# Altium footprint library STLINK-V3MOS.PcbLib: 1 footprints
Each footprint in its own frame and in the unit in brackets; x right, y up, seen from the top. Pads: shape width x height; smd on the part's side, far side on the other; paste and mask are expansions set on the pad; w line width, h text height; cw(c..) or ccw(c..) is an arc to the next point about the centre after c.
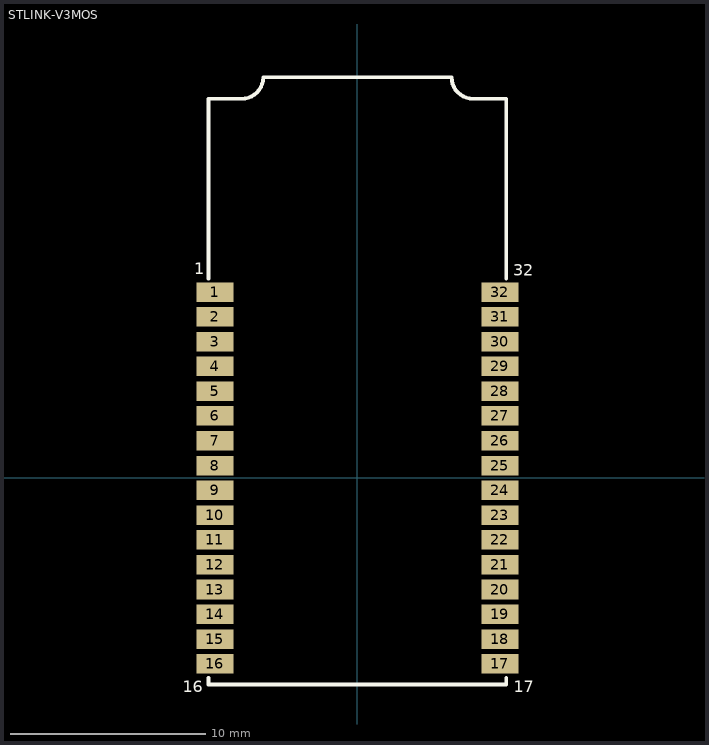
[diagram p0: the footprint, top view; thin cyan lines are the x and y axes]

## STLINK-V3MOS [mm]
pads (32):
  rect 1.9x1 smd: 1(-7.3,9.525) 2(-7.3,8.255) 3(-7.3,6.985) 4(-7.3,5.715) 5(-7.3,4.445) 6(-7.3,3.175) 7(-7.3,1.905) 8(-7.3,0.635) 9(-7.3,-0.635) 10(-7.3,-1.905) 11(-7.3,-3.175) 12(-7.3,-4.445) 13(-7.3,-5.715) 14(-7.3,-6.985) 15(-7.3,-8.255) 16(-7.3,-9.525) 17(7.3,-9.525) 18(7.3,-8.255) 19(7.3,-6.985) 20(7.3,-5.715) 21(7.3,-4.445) 22(7.3,-3.175) 23(7.3,-1.905) 24(7.3,-0.635) 25(7.3,0.635) 26(7.3,1.905) 27(7.3,3.175) 28(7.3,4.445) 29(7.3,5.715) 30(7.3,6.985) 31(7.3,8.255) 32(7.3,9.525)
Top Overlay:
  lines w0.2: -7.625,-10.25 -7.625,-10.575 7.625,-10.575 7.625,-10.25 ; -7.625,10.225 -7.625,19.425 -5.925,19.425 ccw(c-5.925,20.525) -4.825,20.525 4.825,20.525 ccw(c5.925,20.525) 5.925,19.425 7.625,19.425 7.625,10.225
  text "1" at -8.35,10.425 h0.6
  text "16" at -8.95,-10.975 h0.6
  text "17" at 8,-10.975 h0.6
  text "32" at 7.975,10.35 h0.6
3D body "STLINK-V3MODS.step": height 4.55, standoff 0.08, extent -7.62,-10.572 7.62,21.1